# Altium schematic symbol library mylib.SchLib: 16 symbols
Pins are listed as number, name and electrical type; pins without a type are passive.

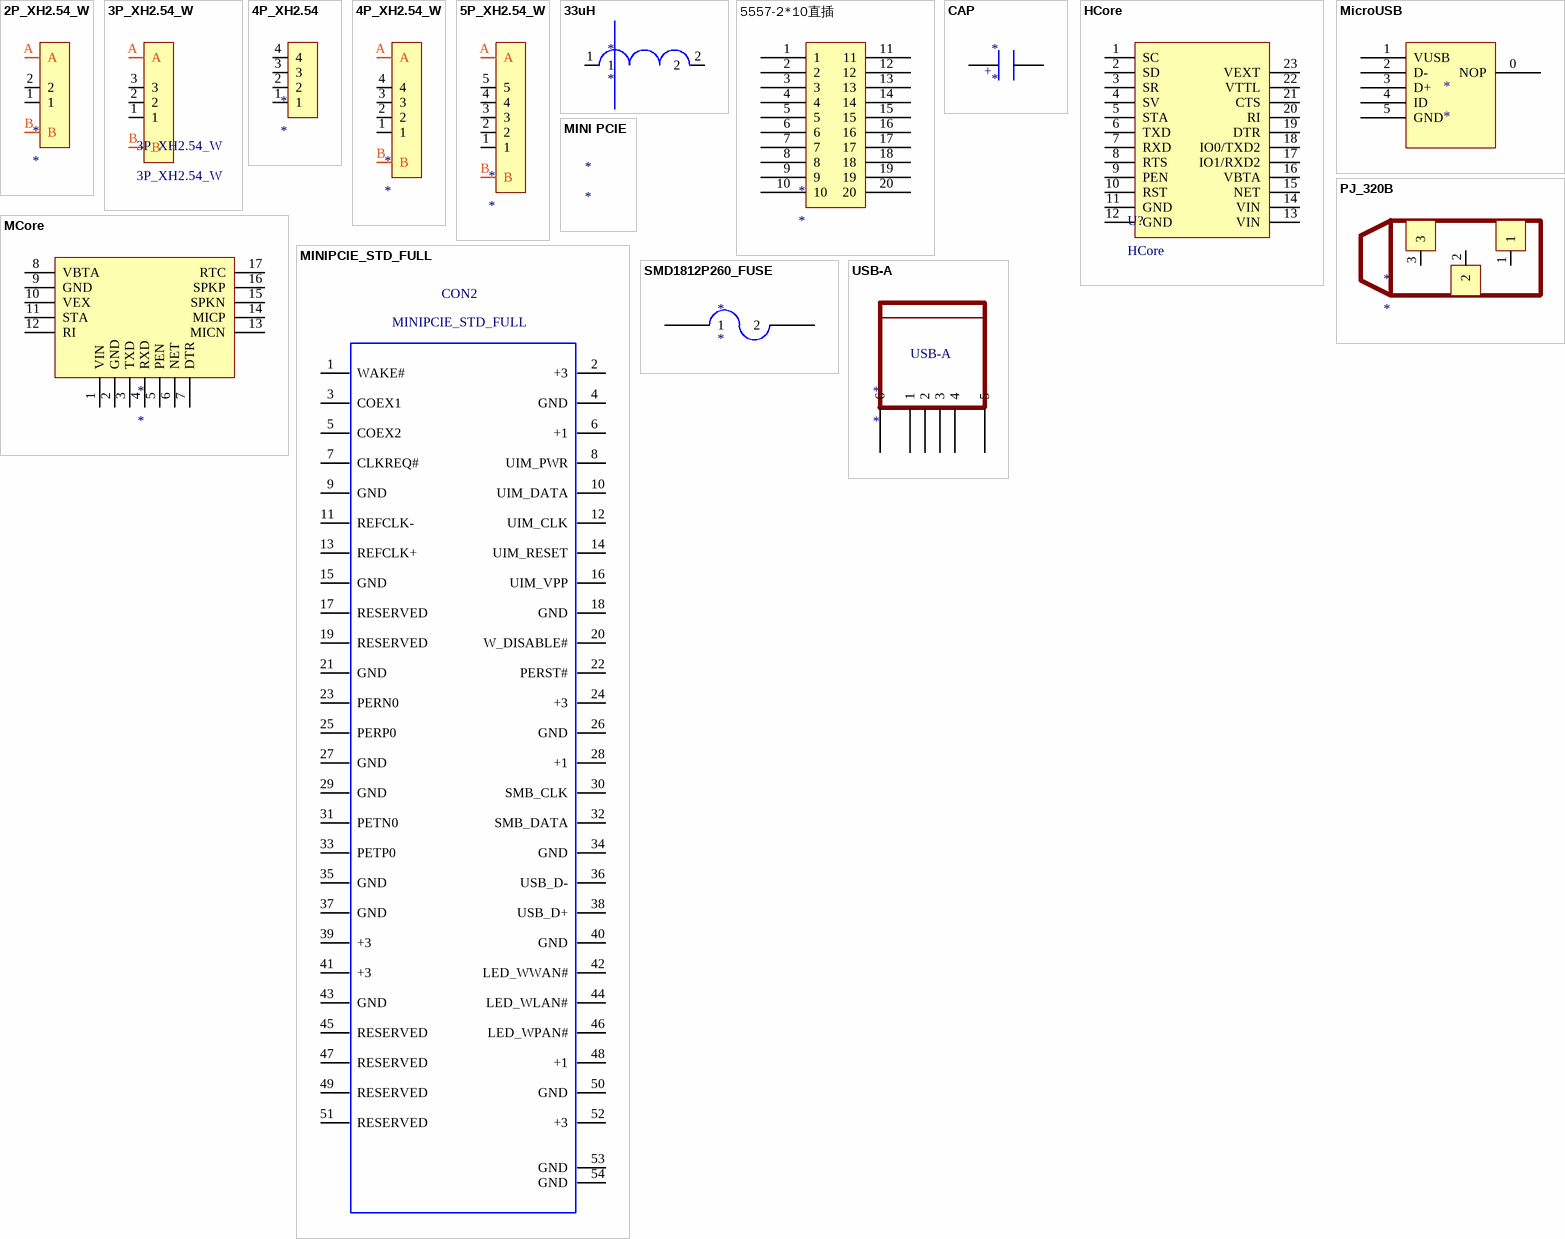
[diagram p0: symbols 2P_XH2.54_W to USB-A]

## 2P_XH2.54_W
designator *
pins: 1, 2, A, B

## 3P_XH2.54_W
designator 3P_XH2.54_W
pins: 1, 2, 3, A, B

## 4P_XH2.54
designator *
pins: 1, 2, 3, 4

## 4P_XH2.54_W
designator *
pins: 1, 2, 3, 4, A, B

## 5P_XH2.54_W
designator *
pins: 1, 2, 3, 4, 5, A, B

## 33uH
designator *
pins: 1, 2

## 5557-2*10直插
designator *
pins: 1, 2, 3, 4, 5, 6, 7, 8, 9, 10, 11, 12, 13, 14, 15, 16, 17, 18, 19, 20

## CAP
designator *
pins: 1, 2
text: +

## HCore
designator U?
pins: 1 SC, 2 SD, 3 SR, 4 SV, 5 STA, 6 TXD, 7 RXD, 8 RTS, 9 PEN, 10 RST, 11 GND, 12 GND, 13 VIN, 14 VIN, 15 NET, 16 VBTA, 17 IO1/RXD2, 18 IO0/TXD2, 19 DTR, 20 RI, 21 CTS, 22 VTTL, 23 VEXT

## MCore
designator *
pins: 1 VIN, 2 GND, 3 TXD, 4 RXD, 5 PEN, 6 NET, 7 DTR, 8 VBTA, 9 GND, 10 VEX, 11 STA, 12 RI, 13 MICN, 14 MICP, 15 SPKN, 16 SPKP, 17 RTC

## MicroUSB
designator *
footprint microusb (Connector; USB1.1, Type B, SM; 4 Position; Right Angle)
pins: 0 NOP, 1 VUSB, 2 D-, 3 D+, 4 ID, 5 GND

## MINI PCIE
designator *

## MINIPCIE_STD_FULL
designator CON2
Mini PCIe Goldfinger; PCB DECAL: MINIPCIE_FULL
pins: 1 WAKE#, 2 +3, 3 COEX1, 4 GND, 5 COEX2, 6 +1, 7 CLKREQ#, 8 UIM_PWR, 9 GND, 10 UIM_DATA, 11 REFCLK-, 12 UIM_CLK, 13 REFCLK+, 14 UIM_RESET, 15 GND, 16 UIM_VPP, 17 RESERVED, 18 GND, 19 RESERVED, 20 W_DISABLE#, 21 GND, 22 PERST#, 23 PERN0, 24 +3, 25 PERP0, 26 GND, 27 GND, 28 +1, 29 GND, 30 SMB_CLK, 31 PETN0, 32 SMB_DATA, 33 PETP0, 34 GND, 35 GND, 36 USB_D-, 37 GND, 38 USB_D+, 39 +3, 40 GND, 41 +3, 42 LED_WWAN#, 43 GND, 44 LED_WLAN#, 45 RESERVED, 46 LED_WPAN#, 47 RESERVED, 48 +1, 49 RESERVED, 50 GND, 51 RESERVED, 52 +3, 53 GND, 54 GND

## PJ_320B
designator *
pins: 1, 2, 3

## SMD1812P260_FUSE
designator *
pins: 1, 2

## USB-A
designator *
pins: 1, 2, 3, 4, 5, 6